# Altium footprint library micron.PCBLIB: 1 footprints
Each footprint in its own frame and in the unit in brackets; x right, y up, seen from the top. Pads: shape width x height; smd on the part's side, far side on the other; paste and mask are expansions set on the pad; w line width, h text height; cw(c..) or ccw(c..) is an arc to the next point about the centre after c.
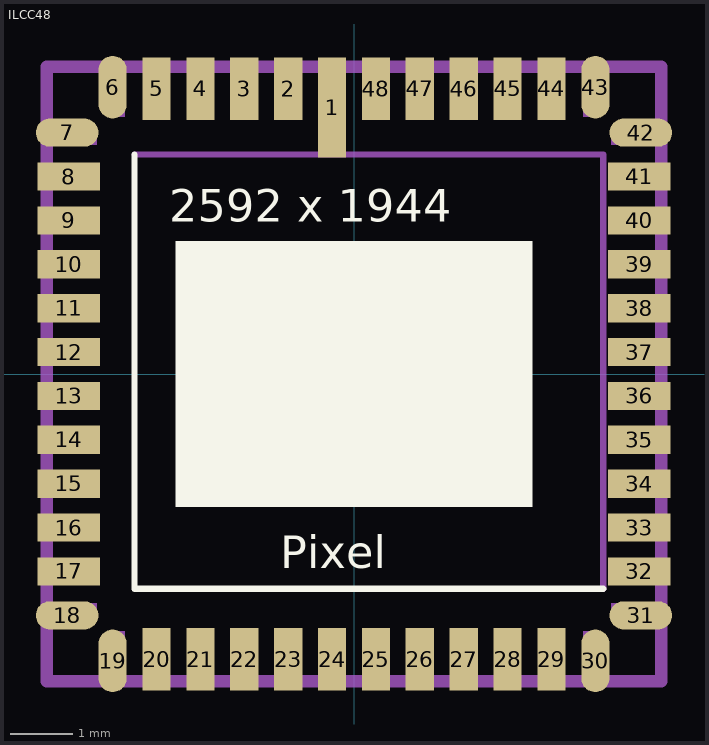
[diagram p0: the footprint, top view; thin cyan lines are the x and y axes]

## ILCC48 [mm]
pads (48):
  rect 0.45x1.6 smd: 1(-0.35,4.25)
  rect 0.45x1 smd: 2(-1.05,4.55) 3(-1.75,4.55) 4(-2.45,4.55) 5(-3.15,4.55) 20(-3.15,-4.55) 21(-2.45,-4.55) 22(-1.75,-4.55) 23(-1.05,-4.55) 24(-0.35,-4.55) 25(0.35,-4.55) 26(1.05,-4.55) 27(1.75,-4.55) 28(2.45,-4.55) 29(3.15,-4.55) 44(3.15,4.55) 45(2.45,4.55) 46(1.75,4.55) 47(1.05,4.55) 48(0.35,4.55)
  rrect100% 0.45x1 smd: 6(-3.85,4.575) 19(-3.85,-4.575) 30(3.85,-4.575) 43(3.85,4.575)
  rrect100% 1x0.45 smd: 7(-4.575,3.85) 18(-4.575,-3.85) 31(4.575,-3.85) 42(4.575,3.85)
  rect 1x0.45 smd: 8(-4.55,3.15) 9(-4.55,2.45) 10(-4.55,1.75) 11(-4.55,1.05) 12(-4.55,0.35) 13(-4.55,-0.35) 14(-4.55,-1.05) 15(-4.55,-1.75) 16(-4.55,-2.45) 17(-4.55,-3.15) 32(4.55,-3.15) 33(4.55,-2.45) 34(4.55,-1.75) 35(4.55,-1.05) 36(4.55,-0.35) 37(4.55,0.35) 38(4.55,1.05) 39(4.55,1.75) 40(4.55,2.45) 41(4.55,3.15)
Top Overlay:
  rectangle: -2.85,-2.125 2.85,2.125
  lines w0.102: -3.5,3.5 -3.5,-3.425 3.975,-3.425
  text "2592 x 1944" at -2.95,2.425 h0.52
  text "Pixel" at -1.175,-3.1 h0.52
Top Paste:
  rectangle: -4.95,2.95 -4.075,3.35
  rectangle: -4.95,2.25 -4.075,2.65
  rectangle: -4.95,1.55 -4.075,1.95
  rectangle: -4.95,0.85 -4.075,1.25
  rectangle: -4.95,0.15 -4.075,0.55
  rectangle: -4.95,-0.55 -4.075,-0.15
  rectangle: -4.95,-1.25 -4.075,-0.85
  rectangle: -4.95,-1.95 -4.075,-1.55
  rectangle: -4.95,-2.65 -4.075,-2.25
  rectangle: -4.95,-3.35 -4.075,-2.95
  region: -2.95,-4.95 -2.95,-4.075 -3.35,-4.075 -3.35,-4.95
  region: -2.25,-4.95 -2.25,-4.075 -2.65,-4.075 -2.65,-4.95
  region: -1.55,-4.95 -1.55,-4.075 -1.95,-4.075 -1.95,-4.95
  region: -0.85,-4.95 -0.85,-4.075 -1.25,-4.075 -1.25,-4.95
  region: -0.15,-4.95 -0.15,-4.075 -0.55,-4.075 -0.55,-4.95
  region: 0.55,-4.95 0.55,-4.075 0.15,-4.075 0.15,-4.95
  region: 1.25,-4.95 1.25,-4.075 0.85,-4.075 0.85,-4.95
  region: 1.95,-4.95 1.95,-4.075 1.55,-4.075 1.55,-4.95
  region: 2.65,-4.95 2.65,-4.075 2.25,-4.075 2.25,-4.95
  region: 3.35,-4.95 3.35,-4.075 2.95,-4.075 2.95,-4.95
  region: 4.95,-2.95 4.075,-2.95 4.075,-3.35 4.95,-3.35
  region: 4.95,-2.25 4.075,-2.25 4.075,-2.65 4.95,-2.65
  region: 4.95,-1.55 4.075,-1.55 4.075,-1.95 4.95,-1.95
  region: 4.95,-0.85 4.075,-0.85 4.075,-1.25 4.95,-1.25
  region: 4.95,-0.15 4.075,-0.15 4.075,-0.55 4.95,-0.55
  region: 4.95,0.55 4.075,0.55 4.075,0.15 4.95,0.15
  region: 4.95,1.25 4.075,1.25 4.075,0.85 4.95,0.85
  region: 4.95,1.95 4.075,1.95 4.075,1.55 4.95,1.55
  region: 4.95,2.65 4.075,2.65 4.075,2.25 4.95,2.25
  region: 4.95,3.35 4.075,3.35 4.075,2.95 4.95,2.95
  region: 2.95,4.95 2.95,4.075 3.35,4.075 3.35,4.95
  region: 2.25,4.95 2.25,4.075 2.65,4.075 2.65,4.95
  region: 1.55,4.95 1.55,4.075 1.95,4.075 1.95,4.95
  region: 0.85,4.95 0.85,4.075 1.25,4.075 1.25,4.95
  region: 0.15,4.95 0.15,4.075 0.55,4.075 0.55,4.95
  region: -0.55,4.95 -0.55,3.5 -0.15,3.5 -0.15,4.95
  region: -1.25,4.95 -1.25,4.075 -0.85,4.075 -0.85,4.95
  region: -1.95,4.95 -1.95,4.075 -1.55,4.075 -1.55,4.95
  region: -2.65,4.95 -2.65,4.075 -2.25,4.075 -2.25,4.95
  region: -3.35,4.95 -3.35,4.075 -2.95,4.075 -2.95,4.95
  region: 0,0 0.254,0 0.254,0.254 0,0.254
  region: 0,0 0.254,0 0.254,0.254 0,0.254
  region: 0,0 0.254,0 0.254,0.254 0,0.254
  region: 0,0 0.254,0 0.254,0.254 0,0.254
  region: 0,0 0.254,0 0.254,0.254 0,0.254
  region: 0,0 0.254,0 0.254,0.254 0,0.254
  region: 0,0 0.254,0 0.254,0.254 0,0.254
  region: 0,0 0.254,0 0.254,0.254 0,0.254
Top Solder:
  rectangle: -5.075,2.9 -4.025,3.4
  rectangle: -5.075,2.2 -4.025,2.7
  rectangle: -5.075,1.5 -4.025,2
  rectangle: -5.075,0.8 -4.025,1.3
  rectangle: -5.075,0.1 -4.025,0.6
  rectangle: -5.075,-0.6 -4.025,-0.1
  rectangle: -5.075,-1.3 -4.025,-0.8
  rectangle: -5.075,-2 -4.025,-1.5
  rectangle: -5.075,-2.7 -4.025,-2.2
  rectangle: -5.075,-3.4 -4.025,-2.9
  region: -2.9,-5.075 -2.9,-4.025 -3.4,-4.025 -3.4,-5.075
  region: -2.2,-5.075 -2.2,-4.025 -2.7,-4.025 -2.7,-5.075
  region: -1.5,-5.075 -1.5,-4.025 -2,-4.025 -2,-5.075
  region: -0.8,-5.075 -0.8,-4.025 -1.3,-4.025 -1.3,-5.075
  region: -0.1,-5.075 -0.1,-4.025 -0.6,-4.025 -0.6,-5.075
  region: 0.6,-5.075 0.6,-4.025 0.1,-4.025 0.1,-5.075
  region: 1.3,-5.075 1.3,-4.025 0.8,-4.025 0.8,-5.075
  region: 2,-5.075 2,-4.025 1.5,-4.025 1.5,-5.075
  region: 2.7,-5.075 2.7,-4.025 2.2,-4.025 2.2,-5.075
  region: 3.4,-5.075 3.4,-4.025 2.9,-4.025 2.9,-5.075
  region: 5.075,-2.9 4.025,-2.9 4.025,-3.4 5.075,-3.4
  region: 5.075,-2.2 4.025,-2.2 4.025,-2.7 5.075,-2.7
  region: 5.075,-1.5 4.025,-1.5 4.025,-2 5.075,-2
  region: 5.075,-0.8 4.025,-0.8 4.025,-1.3 5.075,-1.3
  region: 5.075,-0.1 4.025,-0.1 4.025,-0.6 5.075,-0.6
  region: 5.075,0.6 4.025,0.6 4.025,0.1 5.075,0.1
  region: 5.075,1.3 4.025,1.3 4.025,0.8 5.075,0.8
  region: 5.075,2 4.025,2 4.025,1.5 5.075,1.5
  region: 5.075,2.7 4.025,2.7 4.025,2.2 5.075,2.2
  region: 5.075,3.4 4.025,3.4 4.025,2.9 5.075,2.9
  region: 2.9,5.075 2.9,4.025 3.4,4.025 3.4,5.075
  region: 2.2,5.075 2.2,4.025 2.7,4.025 2.7,5.075
  region: 1.5,5.075 1.5,4.025 2,4.025 2,5.075
  region: 0.8,5.075 0.8,4.025 1.3,4.025 1.3,5.075
  region: 0.1,5.075 0.1,4.025 0.6,4.025 0.6,5.075
  region: -0.6,5.075 -0.6,3.425 -0.1,3.425 -0.1,5.075
  region: -1.3,5.075 -1.3,4.025 -0.8,4.025 -0.8,5.075
  region: -2,5.075 -2,4.025 -1.5,4.025 -1.5,5.075
  region: -2.7,5.075 -2.7,4.025 -2.2,4.025 -2.2,5.075
  region: -3.4,5.075 -3.4,4.025 -2.9,4.025 -2.9,5.075
  region: 0,0 0.254,0 0.254,0.254 0,0.254
  region: 0,0 0.254,0 0.254,0.254 0,0.254
  region: 0,0 0.254,0 0.254,0.254 0,0.254
  region: 0,0 0.254,0 0.254,0.254 0,0.254
  region: 0,0 0.254,0 0.254,0.254 0,0.254
  region: 0,0 0.254,0 0.254,0.254 0,0.254
  region: 0,0 0.254,0 0.254,0.254 0,0.254
  region: 0,0 0.254,0 0.254,0.254 0,0.254
Mechanical 16:
  rectangle: -4.9,3.65 -4.3,4.05
  rectangle: -4.9,2.95 -4.1,3.35
  rectangle: -4.9,2.25 -4.1,2.65
  rectangle: -4.3,3.65 -4.1,3.85
  rectangle: -4.9,1.55 -4.1,1.95
  rectangle: -4.9,0.85 -4.1,1.25
  rectangle: -4.9,0.15 -4.1,0.55
  rectangle: -4.9,-0.55 -4.1,-0.15
  rectangle: -4.9,-1.25 -4.1,-0.85
  rectangle: -4.9,-1.95 -4.1,-1.55
  rectangle: -4.9,-2.65 -4.1,-2.25
  rectangle: -4.9,-3.35 -4.1,-2.95
  rectangle: -4.9,-4.05 -4.3,-3.65
  rectangle: -4.3,-3.85 -4.1,-3.65
  region: -3.65,-4.9 -3.65,-4.3 -4.05,-4.3 -4.05,-4.9
  region: -2.95,-4.9 -2.95,-4.1 -3.35,-4.1 -3.35,-4.9
  region: -2.25,-4.9 -2.25,-4.1 -2.65,-4.1 -2.65,-4.9
  region: -3.65,-4.3 -3.65,-4.1 -3.85,-4.1 -3.85,-4.3
  region: -1.55,-4.9 -1.55,-4.1 -1.95,-4.1 -1.95,-4.9
  region: -0.85,-4.9 -0.85,-4.1 -1.25,-4.1 -1.25,-4.9
  region: -0.15,-4.9 -0.15,-4.1 -0.55,-4.1 -0.55,-4.9
  region: 0.55,-4.9 0.55,-4.1 0.15,-4.1 0.15,-4.9
  region: 1.25,-4.9 1.25,-4.1 0.85,-4.1 0.85,-4.9
  region: 1.95,-4.9 1.95,-4.1 1.55,-4.1 1.55,-4.9
  region: 2.65,-4.9 2.65,-4.1 2.25,-4.1 2.25,-4.9
  region: 3.35,-4.9 3.35,-4.1 2.95,-4.1 2.95,-4.9
  region: 4.05,-4.9 4.05,-4.3 3.65,-4.3 3.65,-4.9
  region: 3.85,-4.3 3.85,-4.1 3.65,-4.1 3.65,-4.3
  region: 4.9,-3.65 4.3,-3.65 4.3,-4.05 4.9,-4.05
  region: 4.9,-2.95 4.1,-2.95 4.1,-3.35 4.9,-3.35
  region: 4.9,-2.25 4.1,-2.25 4.1,-2.65 4.9,-2.65
  region: 4.3,-3.65 4.1,-3.65 4.1,-3.85 4.3,-3.85
  region: 4.9,-1.55 4.1,-1.55 4.1,-1.95 4.9,-1.95
  region: 4.9,-0.85 4.1,-0.85 4.1,-1.25 4.9,-1.25
  region: 4.9,-0.15 4.1,-0.15 4.1,-0.55 4.9,-0.55
  region: 4.9,0.55 4.1,0.55 4.1,0.15 4.9,0.15
  region: 4.9,1.25 4.1,1.25 4.1,0.85 4.9,0.85
  region: 4.9,1.95 4.1,1.95 4.1,1.55 4.9,1.55
  region: 4.9,2.65 4.1,2.65 4.1,2.25 4.9,2.25
  region: 4.9,3.35 4.1,3.35 4.1,2.95 4.9,2.95
  region: 4.9,4.05 4.3,4.05 4.3,3.65 4.9,3.65
  region: 4.3,3.85 4.1,3.85 4.1,3.65 4.3,3.65
  region: 3.65,4.9 3.65,4.3 4.05,4.3 4.05,4.9
  region: 2.95,4.9 2.95,4.1 3.35,4.1 3.35,4.9
  region: 2.25,4.9 2.25,4.1 2.65,4.1 2.65,4.9
  region: 3.65,4.3 3.65,4.1 3.85,4.1 3.85,4.3
  region: 1.55,4.9 1.55,4.1 1.95,4.1 1.95,4.9
  region: 0.85,4.9 0.85,4.1 1.25,4.1 1.25,4.9
  region: 0.15,4.9 0.15,4.1 0.55,4.1 0.55,4.9
  region: -0.55,4.9 -0.55,3.5 -0.15,3.5 -0.15,4.9
  region: -1.25,4.9 -1.25,4.1 -0.85,4.1 -0.85,4.9
  region: -1.95,4.9 -1.95,4.1 -1.55,4.1 -1.55,4.9
  region: -2.65,4.9 -2.65,4.1 -2.25,4.1 -2.25,4.9
  region: -3.35,4.9 -3.35,4.1 -2.95,4.1 -2.95,4.9
  region: -4.05,4.9 -4.05,4.3 -3.65,4.3 -3.65,4.9
  region: -3.85,4.3 -3.85,4.1 -3.65,4.1 -3.65,4.3
  region: 0,0 0.254,0 0.254,0.254 0,0.254
  region: 0,0 0.254,0 0.254,0.254 0,0.254
  region: 0,0 0.254,0 0.254,0.254 0,0.254
  region: 0,0 0.254,0 0.254,0.254 0,0.254
  region: 0,0 0.254,0 0.254,0.254 0,0.254
  region: 0,0 0.254,0 0.254,0.254 0,0.254
  region: 0,0 0.254,0 0.254,0.254 0,0.254
  region: 0,0 0.254,0 0.254,0.254 0,0.254
  lines w0.102: -3.5,3.5 3.975,3.5 3.975,-3.425
  lines w0.203: -4.9,-4.9 4.9,-4.9 4.9,4.9 -4.9,4.9 -4.9,-4.9